# EAGLE library part PCA9922 (library nxp)
The PCA9922 is an 8-channel constant current LED driver designed for LED signage and display applications. The output current is adjustable from 15 mA to 60 mA controlled by an external series resistor. The outputs are controlled via a serial interface with a maximum clock frequency of 25 MHz to allow for the system requirement of high volume data transmission. Each of the 8 channel outputs has edge rate control to limit the change in current when the outputs are enabled or disabled
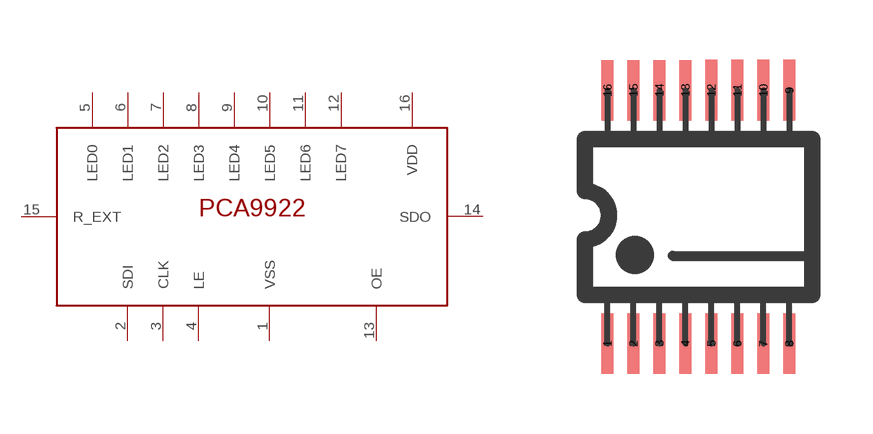
[diagram p0: symbol with the pads of TSSOP16; footprint TSSOP16]

Designator prefix -

## PCA9922  [TSSOP16]
1  VSS
2  SDI
3  CLK
4  LE
5  LED0
6  LED1
7  LED2
8  LED3
9  LED4
10  LED5
11  LED6
12  LED7
13  OE
14  SDO
15  R_EXT
16  VDD

## Footprint TSSOP16 (pad centres in mm)
TSSOP16, SMD TSSOP IC package (0.65mm pitch), 16 pins
smd 0.305 x 1.524: 1 -2.275,-3.169; 2 -1.625,-3.169; 3 -0.975,-3.169; 4 -0.325,-3.169; 5 0.325,-3.169; 6 0.975,-3.169; 7 1.625,-3.169; 8 2.275,-3.169; 9 2.275,3.169; 10 1.625,3.169; 11 0.975,3.169; 12 0.325,3.169; 13 -0.325,3.169; 14 -0.975,3.169; 15 -1.625,3.169; 16 -2.275,3.169